# Altium integrated library STM32U575ZIT6Q.IntLib: 1 symbol
Pins are listed as number, name and electrical type; pins without a type are passive.

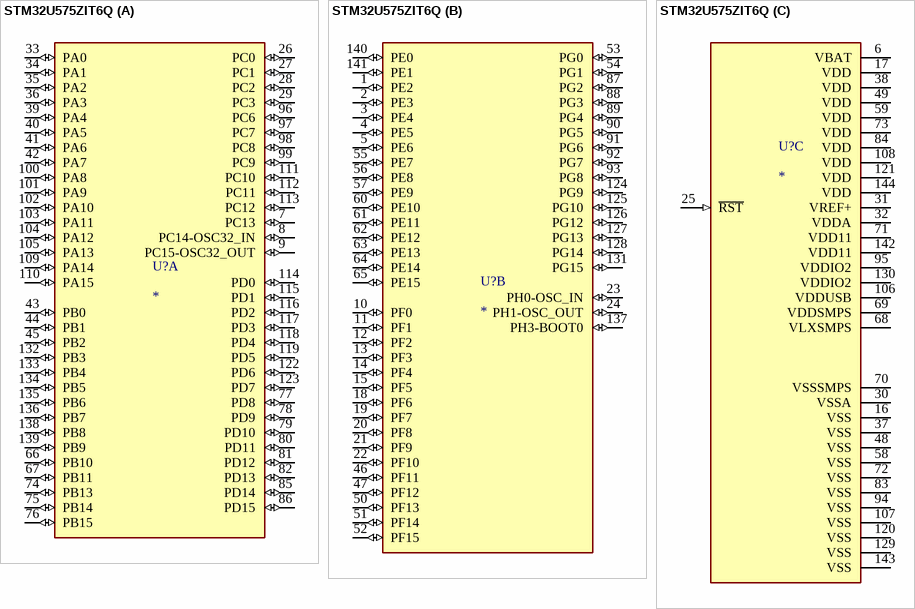
[diagram p0: symbol STM32U575ZIT6Q]

## STM32U575ZIT6Q
designator U?
ARM® Cortex®-M33 STM32U5 Microcontroller IC 32-Bit 160MHz 2MB (2M x 8) FLASH 144-LQFP (20x20); MF: STMicroelectronics; MP: STM32U575ZIT6Q; SnapEDA_Link: https://www.snapeda.com/parts/STM32U575ZIT6Q/STMicroelectronics/view-part/?ref=snap; Package: None; Value: *; Check_prices: https://www.snapeda.com/parts/STM32U575ZIT6Q/STMicroelectronics/view-part/?ref=eda
footprint QFP50P2200X2200X160-144N
part A pins: 7 PC13 (io), 8 PC14-OSC32_IN (io), 9 PC15-OSC32_OUT (io), 26 PC0 (io), 27 PC1 (io), 28 PC2 (io), 29 PC3 (io), 33 PA0 (io), 34 PA1 (io), 35 PA2 (io), 36 PA3 (io), 39 PA4 (io), 40 PA5 (io), 41 PA6 (io), 42 PA7 (io), 43 PB0 (io), 44 PB1 (io), 45 PB2 (io), 66 PB10 (io), 67 PB11 (io), 74 PB13 (io), 75 PB14 (io), 76 PB15 (io), 77 PD8 (io), 78 PD9 (io), 79 PD10 (io), 80 PD11 (io), 81 PD12 (io), 82 PD13 (io), 85 PD14 (io), 86 PD15 (io), 96 PC6 (io), 97 PC7 (io), 98 PC8 (io), 99 PC9 (io), 100 PA8 (io), 101 PA9 (io), 102 PA10 (io), 103 PA11 (io), 104 PA12 (io), 105 PA13 (io), 109 PA14 (io), 110 PA15 (io), 111 PC10 (io), 112 PC11 (io), 113 PC12 (io), 114 PD0 (io), 115 PD1 (io), 116 PD2 (io), 117 PD3 (io), 118 PD4 (io), 119 PD5 (io), 122 PD6 (io), 123 PD7 (io), 132 PB3 (io), 133 PB4 (io), 134 PB5 (io), 135 PB6 (io), 136 PB7 (io), 138 PB8 (io), 139 PB9 (io)
part B pins: 1 PE2 (io), 2 PE3 (io), 3 PE4 (io), 4 PE5 (io), 5 PE6 (io), 10 PF0 (io), 11 PF1 (io), 12 PF2 (io), 13 PF3 (io), 14 PF4 (io), 15 PF5 (io), 18 PF6 (io), 19 PF7 (io), 20 PF8 (io), 21 PF9 (io), 22 PF10 (io), 23 PH0-OSC_IN (io), 24 PH1-OSC_OUT (io), 46 PF11 (io), 47 PF12 (io), 50 PF13 (io), 51 PF14 (io), 52 PF15 (io), 53 PG0 (io), 54 PG1 (io), 55 PE7 (io), 56 PE8 (io), 57 PE9 (io), 60 PE10 (io), 61 PE11 (io), 62 PE12 (io), 63 PE13 (io), 64 PE14 (io), 65 PE15 (io), 87 PG2 (io), 88 PG3 (io), 89 PG4 (io), 90 PG5 (io), 91 PG6 (io), 92 PG7 (io), 93 PG8 (io), 124 PG9 (io), 125 PG10 (io), 126 PG12 (io), 127 PG13 (io), 128 PG14 (io), 131 PG15 (io), 137 PH3-BOOT0 (io), 140 PE0 (io), 141 PE1 (io)
part C pins: 6 VBAT (power), 16 VSS (power), 17 VDD (power), 25 ~{RST} (in), 30 VSSA (power), 31 VREF+ (power), 32 VDDA (power), 37 VSS (power), 38 VDD (power), 48 VSS (power), 49 VDD (power), 58 VSS (power), 59 VDD (power), 68 VLXSMPS (power), 69 VDDSMPS (power), 70 VSSSMPS (power), 71 VDD11 (power), 72 VSS (power), 73 VDD (power), 83 VSS (power), 84 VDD (power), 94 VSS (power), 95 VDDIO2 (power), 106 VDDUSB (power), 107 VSS (power), 108 VDD (power), 120 VSS (power), 121 VDD (power), 129 VSS (power), 130 VDDIO2 (power), 142 VDD11 (power), 143 VSS (power), 144 VDD (power)